# EAGLE library part ESP8266-01 (library #ESP8266)
ESP8266 - ESP-01 Module
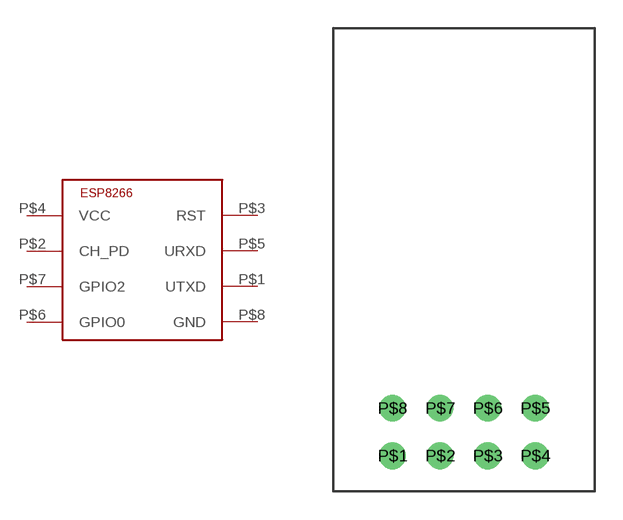
[diagram p0: symbol with the pads of ESP-01; footprint ESP-01]

Designator prefix -

## ESP8266-01  [ESP-01]
P$1  UTXD
P$2  CH_PD
P$3  RST
P$4  VCC
P$5  URXD
P$6  GPIO0
P$7  GPIO2
P$8  GND

## Footprint ESP-01 (pad centres in mm)
drill 0.8 pad 1.422: P$1 0,0; P$2 2.54,0; P$3 5.08,0; P$4 7.62,0; P$5 7.62,2.54; P$6 5.08,2.54; P$7 2.54,2.54; P$8 0,2.54